# Altium footprint library GQ2440.PcbLib: 44 footprints (part 2 of 3)
Each footprint in its own frame and in the unit in brackets; x right, y up, seen from the top. Pads: shape width x height; smd on the part's side, far side on the other; paste and mask are expansions set on the pad; w line width, h text height; cw(c..) or ccw(c..) is an arc to the next point about the centre after c.
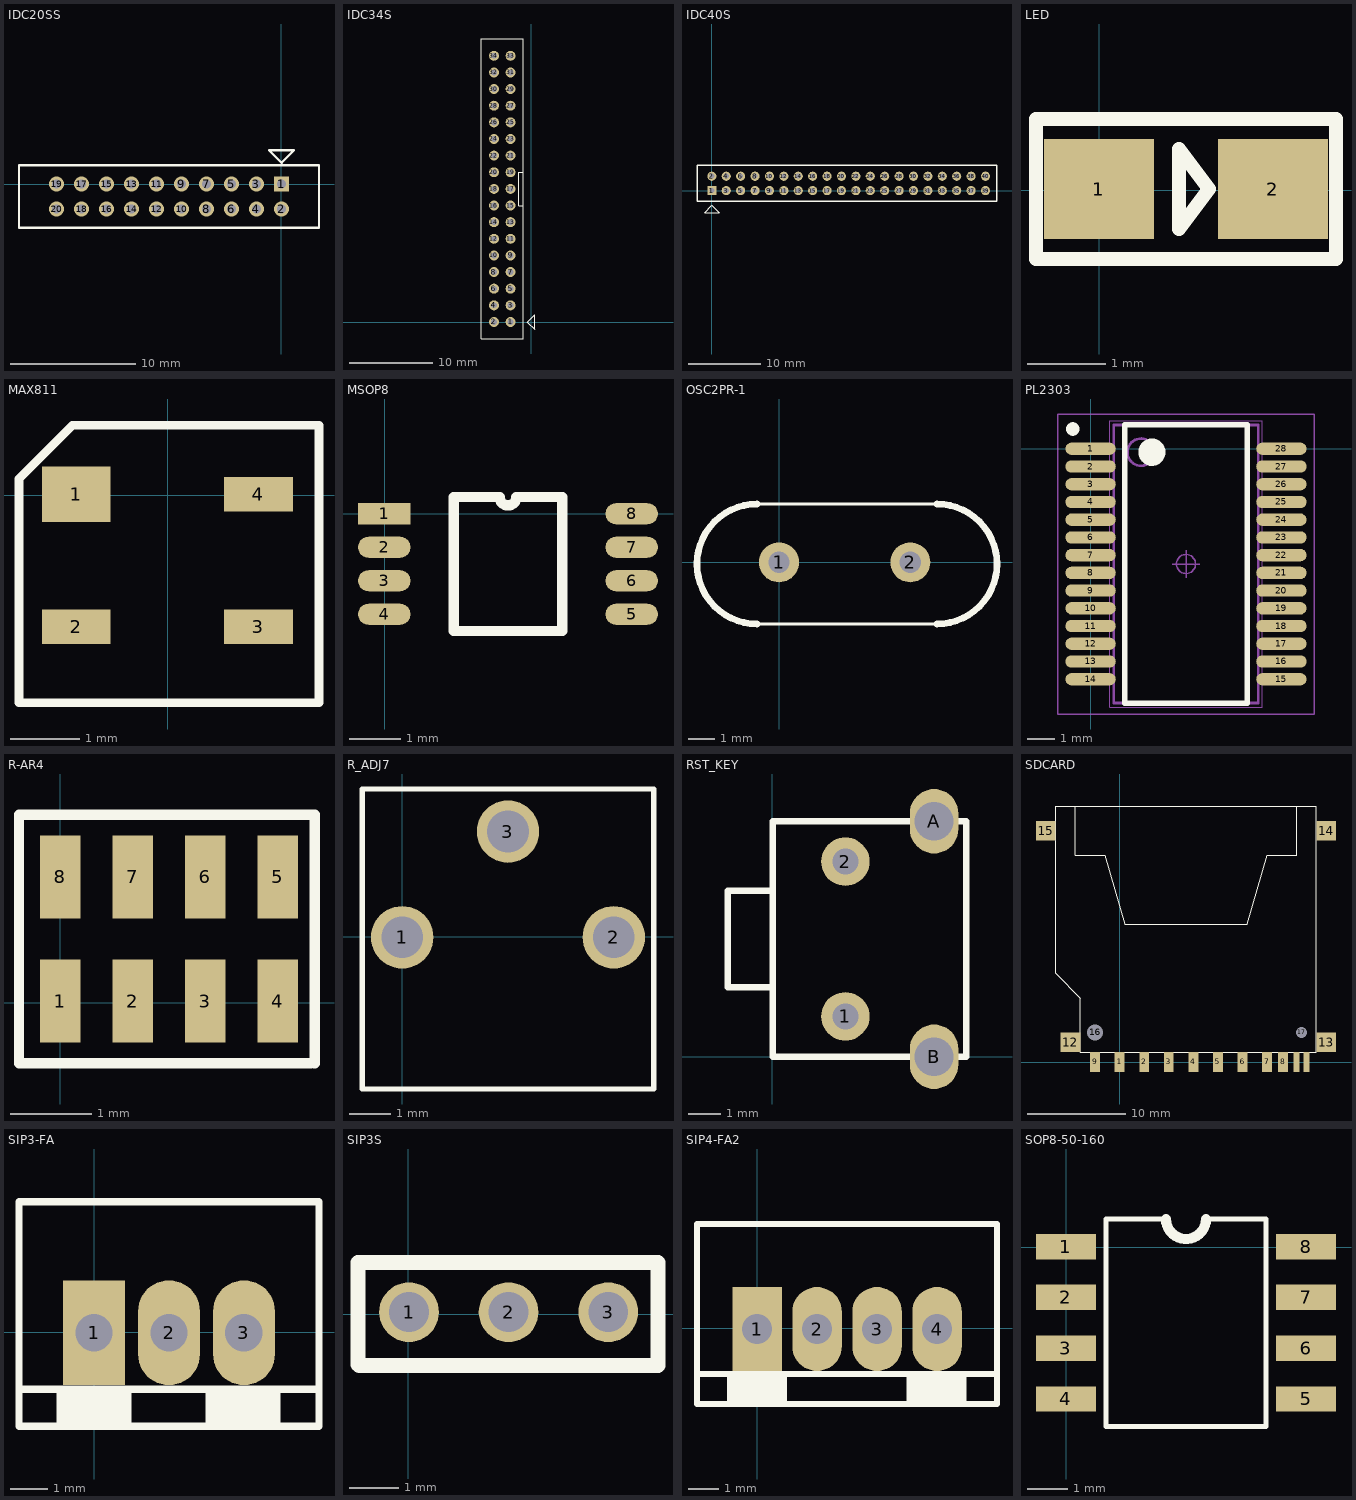
[diagram p1: the footprints below, top view; thin cyan lines are the x and y axes]

## IDC20SS [mm]
pads (20):
  rect 1.2x1.2 hole 0.7: 1(0.002,0.003)
  round 1.2 hole 0.7: 2(0.002,-1.997) 3(-1.998,0.003) 4(-1.998,-1.997) 5(-3.998,0.003) 6(-3.998,-1.997) 7(-5.998,0.003) 8(-5.998,-1.997) 9(-7.998,0.003) 10(-7.998,-1.997) 11(-9.998,0.003) 12(-9.998,-1.997) 13(-11.998,0.003) 14(-11.998,-1.997) 15(-13.998,0.003) 16(-13.998,-1.997) 17(-15.998,0.003) 18(-15.998,-1.997) 19(-17.998,0.003) 20(-17.998,-1.997)
Top Overlay:
  lines w0.2: -20.998,-3.497 3.002,-3.497 3.002,1.503 -20.998,1.503 -20.998,-3.497 ; -0.998,2.703 1.002,2.703 0.002,1.703 -0.998,2.703

## IDC34S [mm]
pads (34):
  round 1.2 hole 0.7: 1(-2.504,0.016) 2(-4.504,0.016) 3(-2.504,2.016) 4(-4.504,2.016) 5(-2.504,4.016) 6(-4.504,4.016) 7(-2.504,6.016) 8(-4.504,6.016) 9(-2.504,8.016) 10(-4.504,8.016) 11(-2.504,10.016) 12(-4.504,10.016) 13(-2.504,12.016) 14(-4.504,12.016) 15(-2.504,14.016) 16(-4.504,14.016) 17(-2.504,16.016) 18(-4.504,16.016) 19(-2.504,18.016) 20(-4.504,18.016) 21(-2.504,20.016) 22(-4.504,20.016) 23(-2.504,22.016) 24(-4.504,22.016) 25(-2.504,24.016) 26(-4.504,24.016) 27(-2.504,26.016) 28(-4.504,26.016) 29(-2.504,28.016) 30(-4.504,28.016) 31(-2.504,30.016) 32(-4.504,30.016) 33(-2.504,32.016) 34(-4.504,32.016)
Top Overlay:
  lines w0.127: -1.004,14.008 -1.513,14.008 -1.513,18.008 -1.004,18.008 ; -6.004,-2.032 -6.004,34.036 -1.004,34.036 -1.004,-2.032 -6.004,-2.032 ; -0.481,0.009 0.369,-0.841 0.369,0.859 -0.481,0.009

## IDC40S [mm]
pads (40):
  rect 1.27x1.27 hole 0.7: 1(0.028,-0.011)
  round 1.27 hole 0.7: 2(0.028,1.989) 3(2.028,-0.011) 4(2.028,1.989) 5(4.028,-0.011) 6(4.028,1.989) 7(6.028,-0.011) 8(6.028,1.989) 9(8.028,-0.011) 10(8.028,1.989) 11(10.028,-0.011) 12(10.028,1.989) 13(12.028,-0.011) 14(12.028,1.989) 15(14.028,-0.011) 16(14.028,1.989) 17(16.028,-0.011) 18(16.028,1.989) 19(18.028,-0.011) 20(18.028,1.989) 21(20.028,-0.011) 22(20.028,1.989) 23(22.028,-0.011) 24(22.028,1.989) 25(24.028,-0.011) 26(24.028,1.989) 27(26.028,-0.011) 28(26.028,1.989) 29(28.028,-0.011) 30(28.028,1.989) 31(30.028,-0.011) 32(30.028,1.989) 33(32.028,-0.011) 34(32.028,1.989) 35(34.028,-0.011) 36(34.028,1.989) 37(36.028,-0.011) 38(36.028,1.989) 39(38.028,-0.011) 40(38.028,1.989)
Top Overlay:
  lines w0.127: -0.988,-3.059 0.028,-2.043 1.044,-3.059 -0.988,-3.059
  lines w0.2: -2.032,-1.511 -2.032,3.489 39.624,3.489 39.624,-1.511 -2.032,-1.511

## LED [mm]
pads (2):
  rect 1.4x1.27 smd: 1(-0.003,0.013) 2(2.207,0.013)
Top Overlay:
  lines w0.178: 3.008,0.902 3.007,0.902 ; 3.007,0.902 3.007,-0.876 -0.803,-0.876 -0.803,0.013 -0.803,0.902 3.007,0.902 ; 1.013,-0.495 1.013,0.521 1.394,0.013 1.013,-0.495

## MAX811 [mm]
pads (4):
  rect 1x0.8 smd: 1(-1.327,0.013)
  rect 1x0.5 smd: 2(-1.327,-1.907) 3(1.313,-1.907) 4(1.313,0.013)
Top Overlay:
  lines w0.127: -2.157,-3.012 -2.157,0.238 -1.382,1.013 2.193,1.013 2.193,-3.012 -2.157,-3.012

## MSOP8 [mm]
pads (8):
  rect 1.02x0.41 smd: 1(-0.007,0.004)
  oval 1.02x0.41 smd: 2(-0.007,-0.646) 3(-0.007,-1.297) 4(-0.007,-1.946) 5(4.793,-1.946) 6(4.793,-1.297) 7(4.793,-0.646) 8(4.793,0.004)
Top Overlay:
  lines w0.2: 1.338,-2.271 3.448,-2.271 3.448,0.329 2.556,0.329 cw(c2.393,0.329) 2.231,0.329 1.338,0.329 1.338,-2.271

## OSC2PR-1 [mil]
pads (2):
  round 60 hole 32: 1(-0.31,-0.47) 2(196.69,-0.47)
Top Overlay:
  lines w5: -43.31,-92.97 246.69,-92.97 ; -43.31,87.03 246.69,87.03
  lines w10: -33.31,-92.97 cw(c-33.31,-2.97) -33.31,87.03 ; 236.69,-92.97 ccw(c236.69,-2.97) 236.69,87.03

## PL2303 [mm]
pads (28):
  oval 1.85x0.45 smd: 1(0,0) 2(0,-0.65) 3(0,-1.3) 4(0,-1.95) 5(0,-2.6) 6(0,-3.25) 7(0,-3.9) 8(0,-4.55) 9(0,-5.2) 10(0,-5.85) 11(0,-6.5) 12(0,-7.15) 13(0,-7.8) 14(0,-8.45) 15(7,-8.45) 16(7,-7.8) 17(7,-7.15) 18(7,-6.5) 19(7,-5.85) 20(7,-5.2) 21(7,-4.55) 22(7,-3.9) 23(7,-3.25) 24(7,-2.6) 25(7,-1.95) 26(7,-1.3) 27(7,-0.65) 28(7,0)
Top Overlay:
  circle w0.5: c2.25,-0.125 r0.25
  circle w0.25: c-0.65,0.725 r0.125
  lines w0.2: 1.25,-9.325 5.75,-9.325 5.75,0.875 1.25,0.875 1.25,-9.325
Mechanical 15:
  circle w0.1: c1.85,-0.125 r0.5
  lines w0.1: 0.85,-9.325 6.15,-9.325 6.15,0.875 0.85,0.875 0.85,-9.325
Mechanical 16:
  circle w0.05: c3.5,-4.225 r0.35
  lines w0.001: 0.7,-9.475 6.3,-9.475 6.3,1.025 0.7,1.025 0.7,-9.475
  lines w0.05: 3,-4.225 4,-4.225 ; 3.5,-4.725 3.5,-3.725 ; -1.2,-9.725 8.2,-9.725 8.2,1.275 -1.2,1.275 -1.2,-9.725

## R-AR4 [mm]
pads (8):
  rect 0.5x1.016 smd: 1(-0.001,0.021) 2(0.888,0.021) 3(1.777,0.021) 4(2.666,0.021) 5(2.666,1.545) 6(1.777,1.545) 7(0.888,1.545) 8(-0.001,1.545)
Top Overlay:
  lines w0.127: 3.072,-0.741 -0.509,-0.741 -0.509,2.307 3.123,2.307 3.123,-0.741

## R_ADJ7 [mm]
pads (3):
  round 1.5 hole 1: 1(-0.004,-0.016) 2(5.076,-0.016) 3(2.536,2.524)
Top Overlay:
  lines w0.127: -0.964,-3.656 6.036,-3.656 6.036,3.544 -0.964,3.544 -0.964,-3.616

## RST_KEY [mm]
pads (4):
  round 1.5 hole 0.8: 1(2.265,1.243) 2(2.265,6.043)
  oval 1.5x2 hole 1.2: A(5.015,7.293) B(5.015,-0.007)
Top Overlay:
  lines w0.2: 0.015,2.143 -1.385,2.143 -1.385,5.143 0.015,5.143 ; 0.015,-0.007 0.015,7.293 6.015,7.293 6.015,-0.007 0.015,-0.007

## SDCARD [mm]
pads (17):
  rect 1x2 smd: 1(0.003,0.029) 2(2.503,0.029) 3(5.003,0.029) 4(7.503,0.029) 5(10.003,0.029) 6(12.503,0.029) 7(15.003,0.029) 8(16.628,0.029) 9(-2.497,0.029)
  rect 0.6x2 smd: 10(19.003,0.029) 11(18.003,0.029)
  rect 2x2 smd: 12(-4.997,2.029) 13(21.003,2.029) 14(21.003,23.529) 15(-7.497,23.529)
  round 1.5 hole 1.6: 16(-2.497,3.029)
  round 1 hole 1.1: 17(18.503,3.029)
Top Overlay:
  lines w0.127: -4.497,26.029 -4.497,21.029 -1.497,21.029 0.503,14.029 13.003,14.029 15.003,21.029 18.003,21.029 18.003,26.029 ; -6.497,9.029 -3.997,6.529 -3.997,1.029 20.003,1.029 20.003,26.029 -6.497,26.029 -6.497,9.029

## SIP3-FA [mm]
pads (3):
  rect 1.651x2.8 hole 1: 1(-0.004,-0.015)
  oval 1.651x2.8 hole 1: 2(1.996,-0.015) 3(3.996,-0.015)
Top Overlay:
  region: 4.971,-1.515 2.971,-1.515 2.971,-2.515 4.971,-2.515
  region: 0.996,-1.513 -1.004,-1.513 -1.004,-2.513 0.996,-2.513
  lines w0.2: -2.004,-1.515 5.996,-1.515 ; -2.004,-2.515 -2.004,3.485 5.996,3.485 5.996,-2.515 -2.004,-2.515

## SIP3S [mm]
pads (3):
  round 1.2 hole 0.8: 1(0.019,0.046) 2(2.019,0.046) 3(4.019,0.046)
Top Overlay:
  lines w0.305: -1.006,-1.004 -1.006,0.046 -1.006,1.046 5.019,1.046 5.019,-1.029 -0.981,-1.029 -1.006,-1.004

## SIP4-FA2 [mm]
pads (4):
  rect 1.651x2.8 hole 1: 1(-0.012,-0.02)
  oval 1.651x2.8 hole 1: 2(1.988,-0.02) 3(3.988,-0.02) 4(5.988,-0.02)
Top Overlay:
  region: 6.971,-1.52 4.971,-1.52 4.971,-2.52 6.971,-2.52
  region: 0.988,-1.52 -1.012,-1.52 -1.012,-2.52 0.988,-2.52
  lines w0.2: -2.012,-1.52 7.981,-1.52 ; -2.012,-2.52 -2.012,3.48 7.981,3.48 7.981,-2.52 -2.012,-2.52

## SOP8-50-160 [mm]
pads (8):
  rect 1.5x0.635 smd: 1(-0.002,0.012) 2(-0.002,-1.258) 3(-0.002,-2.528) 4(-0.002,-3.798) 5(5.998,-3.798) 6(5.998,-2.528) 7(5.998,-1.258) 8(5.998,0.012)
Top Overlay:
  lines w0.127: 2.498,0.702 0.998,0.702 0.998,-4.488 4.998,-4.488 4.998,0.702 3.498,0.702
  lines w0.254: 2.498,0.702 ccw(c2.998,0.702) 3.498,0.702